# EAGLE library part NUCLEO-32 (library 08 EAGLE autorska biblioteka Nucleo-32)
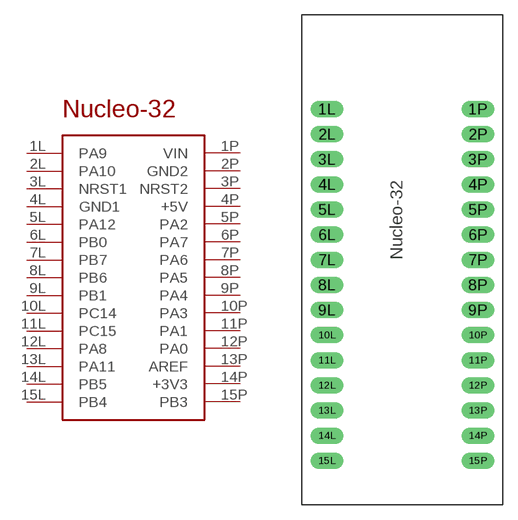
[diagram p0: symbol with the pads of NUCELO-32; footprint NUCELO-32]

Designator prefix -

## NUCLEO-32  [NUCELO-32]
1L  PA9
1P  VIN
2L  PA10
2P  GND2
3L  NRST1
3P  NRST2
4L  GND1
4P  +5V
5L  PA12
5P  PA2
6L  PB0
6P  PA7
7L  PB7
7P  PA6
8L  PB6
8P  PA5
9L  PB1
9P  PA4
10L  PC14
10P  PA3
11L  PC15
11P  PA1
12L  PA8
12P  PA0
13L  PA11
13P  AREF
14L  PB5
14P  +3V3
15L  PB4
15P  PB3

## Footprint NUCELO-32 (pad centres in mm)
drill 1 pad 1.676 long: 1L -7.62,17.78; 1P 7.62,17.78; 2L -7.62,15.24; 2P 7.62,15.24; 3L -7.62,12.7; 3P 7.62,12.7; 4L -7.62,10.16; 4P 7.62,10.16; 5L -7.62,7.62; 5P 7.62,7.62; 6L -7.62,5.08; 6P 7.62,5.08; 7L -7.62,2.54; 7P 7.62,2.54; 8L -7.62,0; 8P 7.62,0; 9L -7.62,-2.54; 9P 7.62,-2.54; 10L -7.62,-5.08; 10P 7.62,-5.08; 11L -7.62,-7.62; 11P 7.62,-7.62; 12L -7.62,-10.16; 12P 7.62,-10.16; 13L -7.62,-12.7; 13P 7.62,-12.7; 14L -7.62,-15.24; 14P 7.62,-15.24; 15L -7.62,-17.78; 15P 7.62,-17.78